# EAGLE library part AS5048B-HTSP (library AS5048B-HTSP)
AS5048B Series 360° 3.3 / 5 V 14 bit Magnetic Rotary Encoder - TSSOP-14
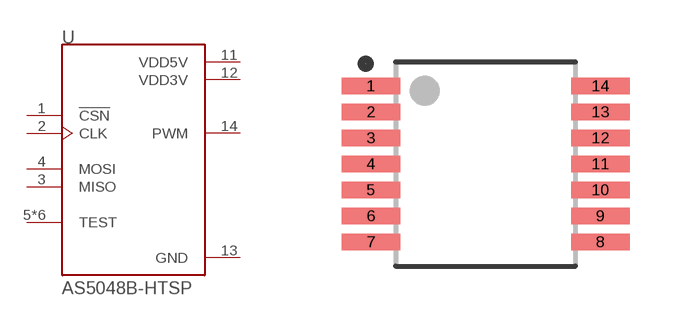
[diagram p0: symbol with the pads of SOP65P640X120-14N; footprint SOP65P640X120-14N]

Designator prefix U

## AS5048B-HTSP (Availability: Unavailable; Description: Ic Encoder Rotary 14-Tssop; MF: ams; MP: AS5048B-HTSP; Package: TSSOP-14 ams; Price: None)  [SOP65P640X120-14N]
1  !CSN  in
2  CLK  in
3  MISO
4  MOSI
5  TEST
6  TEST
7  TEST
8  TEST
9  TEST
10  TEST
11  VDD5V  pwr
12  VDD3V  pwr
13  GND  pas
14  PWM  out

## Footprint SOP65P640X120-14N (pad centres in mm)
smd 1.47 x 0.41: 1 -2.87,1.95; 2 -2.87,1.3; 3 -2.87,0.65; 4 -2.87,0; 5 -2.87,-0.65; 6 -2.87,-1.3; 7 -2.87,-1.95; 8 2.87,-1.95; 9 2.87,-1.3; 10 2.87,-0.65; 11 2.87,0; 12 2.87,0.65; 13 2.87,1.3; 14 2.87,1.95